# Altium footprint library terminal.PcbLib: 2 footprints
Each footprint in its own frame and in the unit in brackets; x right, y up, seen from the top. Pads: shape width x height; smd on the part's side, far side on the other; paste and mask are expansions set on the pad; w line width, h text height; cw(c..) or ccw(c..) is an arc to the next point about the centre after c.
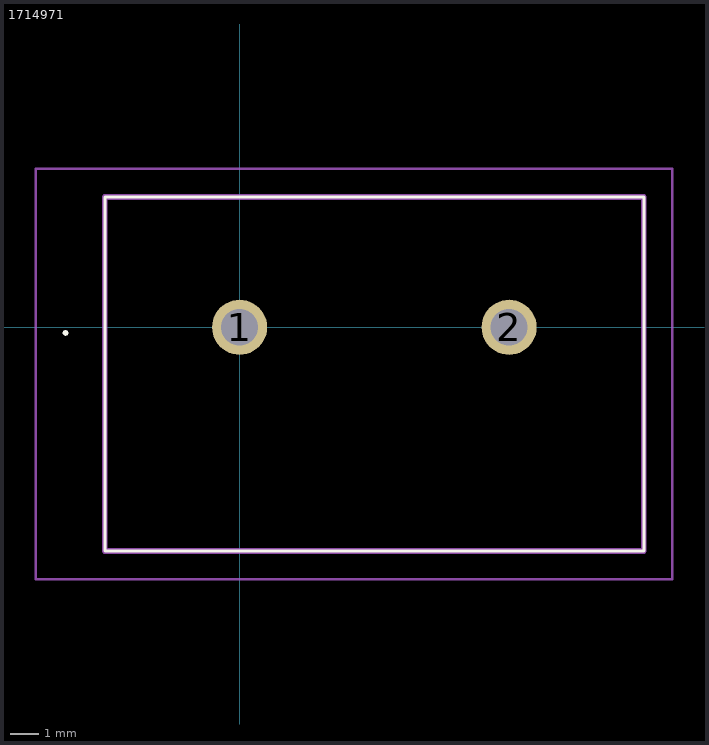
[diagram p0: the footprints below, top view; thin cyan lines are the x and y axes]

## 1714971 [mm]
pads (2):
  round 1.95 hole 1.3: 1(0,0) 2(9.52,0)
Top Overlay:
  lines w0.1: -6.2,-0.2 cw(c-6.15,-0.2) -6.1,-0.2 cw(c-6.15,-0.2) -6.2,-0.2 ; -4.76,-7.9 -4.76,4.6 14.28,4.6 14.28,-7.9 -4.76,-7.9
Mechanical 13:
  lines w0.2: -4.76,-7.9 -4.76,4.6 14.28,4.6 14.28,-7.9 -4.76,-7.9
Mechanical 15:
  lines w0.1: -7.2,-8.9 -7.2,5.6 15.28,5.6 15.28,-8.9 -7.2,-8.9
3D body "1714971.stp": height 21.5, standoff -5, extent -5.32,-7.95 14.29,4.55

## PCBComponent_1 [mm]